# Altium schematic symbol library passive.SchLib: 61 symbols
Pins are listed as number, name and electrical type; pins without a type are passive.

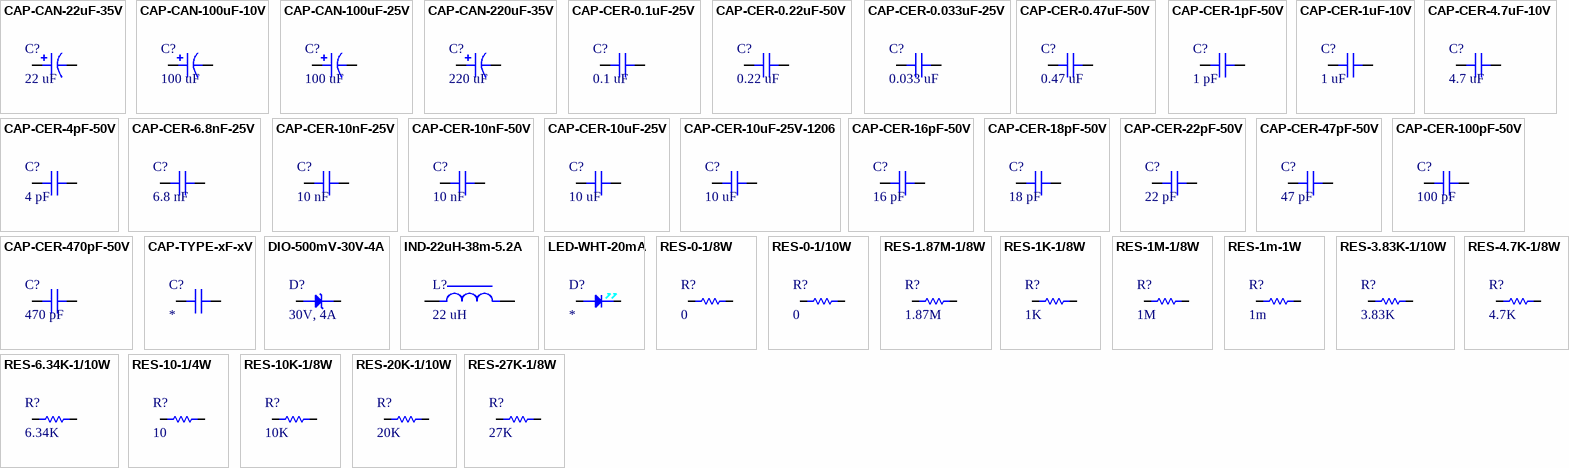
[diagram p0: symbols CAP-CAN-22uF-35V to RES-27K-1/8W]

## CAP-CAN-22uF-35V
designator C?, comment 22 uF
±20%, 5.3mm x 5.3mm; Supplier 1: Digi-Key; Supplier Part Number 1: PCE3838DKR-ND
footprint CAP-CAN-5.3x5.3 (Aluminum Electrolytic Capacitor, Body 4.30x4.30x5.50mm, IPC Low Density)
pins: 1, 2

## CAP-CAN-100uF-10V
designator C?, comment 100 uF
±20%, 8.3mm x 8.3mm; Supplier 1: Digi-Key; Supplier Part Number 1: PCE3989DKR-ND
footprint CAP-CAN-8.3x8.3 (Aluminum Electrolytic Capacitor, Body 8.30x8.30x10.50mm, IPC Low Density)
pins: 1, 2

## CAP-CAN-100uF-25V
designator C?, comment 100 uF
±20%, 8.3mm x 8.3mm; Supplier 1: Digi-Key; Supplier Part Number 1: PCE4003DKR-ND
footprint CAP-CAN-8.3x8.3 (Aluminum Electrolytic Capacitor, Body 8.30x8.30x10.50mm, IPC Low Density)
pins: 1, 2

## CAP-CAN-220uF-35V
designator C?, comment 220 uF
±20%, 8.3mm x 8.3mm; Supplier 1: Digi-Key; Supplier Part Number 1: PCE3955DKR-ND
footprint CAP-CAN-8.3x8.3 (Aluminum Electrolytic Capacitor, Body 8.30x8.30x10.50mm, IPC Low Density)
pins: 1, 2

## CAP-CER-0.1uF-25V
designator C?, comment 0.1 uF
±10%, 0805; ComponentLink1Description: Capacitor Book (Amazon); ComponentLink1URL: https://www.amazon.com/gp/product/B0728HBDRW/
footprint CAP-CER-0805-SHORT (Chip Capacitor, 2-Leads, Body 2.00x1.25mm, IPC Medium Density)
pins: 1, 2

## CAP-CER-0.22uF-50V
designator C?, comment 0.22 uF
±10%, 0805; ComponentLink1Description: Capacitor Book (Amazon); ComponentLink1URL: https://www.amazon.com/gp/product/B0728HBDRW/
footprint CAP-CER-0805-SHORT (Chip Capacitor, 2-Leads, Body 2.00x1.25mm, IPC Medium Density)
pins: 1, 2

## CAP-CER-0.033uF-25V
designator C?, comment 0.033 uF
±10%, 0603; Supplier 1: Digi-Key; Supplier Part Number 1: 1276-6675-6-ND
footprint CAP-CER-0603 (Chip Capacitor, 2-Leads, Body 1.60x0.80mm, IPC Medium Density)
pins: 1, 2

## CAP-CER-0.47uF-50V
designator C?, comment 0.47 uF
±10%, 0805; ComponentLink1Description: Capacitor Book (Amazon); ComponentLink1URL: https://www.amazon.com/gp/product/B0728HBDRW/
footprint CAP-CER-0805-TALL (Chip Capacitor, 2-Leads, Body 2.00x1.25mm, IPC Medium Density)
pins: 1, 2

## CAP-CER-1pF-50V
designator C?, comment 1 pF
±0.25pF, 0805; ComponentLink1Description: Capacitor Book (Amazon); ComponentLink1URL: https://www.amazon.com/gp/product/B0728HBDRW/
footprint CAP-CER-0805-SHORT (Chip Capacitor, 2-Leads, Body 2.00x1.25mm, IPC Medium Density)
pins: 1, 2

## CAP-CER-1uF-10V
designator C?, comment 1 uF
±10%, 0805; ComponentLink1Description: Capacitor Book (Amazon); ComponentLink1URL: https://www.amazon.com/gp/product/B0728HBDRW/
footprint CAP-CER-0805-TALL (Chip Capacitor, 2-Leads, Body 2.00x1.25mm, IPC Medium Density)
pins: 1, 2

## CAP-CER-4.7uF-10V
designator C?, comment 4.7 uF
±10%, 0805; ComponentLink1Description: Capacitor Book (Amazon); ComponentLink1URL: https://www.amazon.com/gp/product/B0728HBDRW/
footprint CAP-CER-0805-TALL (Chip Capacitor, 2-Leads, Body 2.00x1.25mm, IPC Medium Density)
pins: 1, 2

## CAP-CER-4pF-50V
designator C?, comment 4 pF
±0.25pF, 0805; ComponentLink1Description: Capacitor Book (Amazon); ComponentLink1URL: https://www.amazon.com/gp/product/B0728HBDRW/
footprint CAP-CER-0805-SHORT (Chip Capacitor, 2-Leads, Body 2.00x1.25mm, IPC Medium Density)
pins: 1, 2

## CAP-CER-6.8nF-25V
designator C?, comment 6.8 nF
±10%, 0603; Supplier 1: Digi-Key; Supplier Part Number 1: 732-7982-6-ND
footprint CAP-CER-0603 (Chip Capacitor, 2-Leads, Body 1.60x0.80mm, IPC Medium Density)
pins: 1, 2

## CAP-CER-10nF-25V
designator C?, comment 10 nF
±20%, 0603; Supplier 1: Digi-Key; Supplier Part Number 1: 399-8989-6-ND
footprint CAP-CER-0603 (Chip Capacitor, 2-Leads, Body 1.60x0.80mm, IPC Medium Density)
pins: 1, 2

## CAP-CER-10nF-50V
designator C?, comment 10 nF
±10%, 0805; ComponentLink1Description: Capacitor Book (Amazon); ComponentLink1URL: https://www.amazon.com/gp/product/B0728HBDRW/
footprint CAP-CER-0805-SHORT (Chip Capacitor, 2-Leads, Body 2.00x1.25mm, IPC Medium Density)
pins: 1, 2

## CAP-CER-10uF-25V
designator C?, comment 10 uF
±10%, 0805; Supplier 1: Digi-Key; ComponentLink1Description: Datasheet; ComponentLink1URL: https://search.murata.co.jp/Ceramy/image/img/A01X/G101/ENG/GRM21BR61E106KA73-01.pdf; Supplier Part Number 1: 490-5523-6-ND
footprint CAP-CER-0805-TALL (Chip Capacitor, 2-Leads, Body 2.00x1.25mm, IPC Medium Density)
pins: 1, 2

## CAP-CER-10uF-25V-1206
designator C?, comment 10 uF
±20%, 1206; ComponentLink1Description: Datasheet; ComponentLink1URL: https://search.murata.co.jp/Ceramy/image/img/A01X/G101/ENG/GRM21BR61E106KA73-01.pdf; Supplier 1: Digi-Key; Supplier Part Number 1: 445-14678-6-ND
footprint CAP-CER-1206 (Chip Capacitor, 2-Leads, Body 3.20x1.60mm, IPC Medium Density)
pins: 1, 2

## CAP-CER-16pF-50V
designator C?, comment 16 pF
±5%, 0805; ComponentLink1Description: Capacitor Book (Amazon); ComponentLink1URL: https://www.amazon.com/gp/product/B0728HBDRW/
footprint CAP-CER-0805-SHORT (Chip Capacitor, 2-Leads, Body 2.00x1.25mm, IPC Medium Density)
pins: 1, 2

## CAP-CER-18pF-50V
designator C?, comment 18 pF
±5%, 0805; ComponentLink1Description: Capacitor Book (Amazon); ComponentLink1URL: https://www.amazon.com/gp/product/B0728HBDRW/
footprint CAP-CER-0805-SHORT (Chip Capacitor, 2-Leads, Body 2.00x1.25mm, IPC Medium Density)
pins: 1, 2

## CAP-CER-22pF-50V
designator C?, comment 22 pF
±5%, 0805; ComponentLink1Description: Capacitor Book (Amazon); ComponentLink1URL: https://www.amazon.com/gp/product/B0728HBDRW/
footprint CAP-CER-0805-SHORT (Chip Capacitor, 2-Leads, Body 2.00x1.25mm, IPC Medium Density)
pins: 1, 2

## CAP-CER-47pF-50V
designator C?, comment 47 pF
±5%, 0805; ComponentLink1Description: Capacitor Book (Amazon); ComponentLink1URL: https://www.amazon.com/gp/product/B0728HBDRW/
footprint CAP-CER-0805-SHORT (Chip Capacitor, 2-Leads, Body 2.00x1.25mm, IPC Medium Density)
pins: 1, 2

## CAP-CER-100pF-50V
designator C?, comment 100 pF
±5%, 0805; ComponentLink1Description: Capacitor Book (Amazon); ComponentLink1URL: https://www.amazon.com/gp/product/B0728HBDRW/
footprint CAP-CER-0805-SHORT (Chip Capacitor, 2-Leads, Body 2.00x1.25mm, IPC Medium Density)
pins: 1, 2

## CAP-CER-470pF-50V
designator C?, comment 470 pF
20%, 0603; Supplier 1: Digi-Key; Supplier Part Number 1: 311-3377-6-ND
footprint CAP-CER-0603 (Chip Capacitor, 2-Leads, Body 1.60x0.80mm, IPC Medium Density)
pins: 1, 2

## CAP-TYPE-xF-xV
designator C?
±X%, 0805; ComponentLink1Description: Capacitor Book (Amazon); ComponentLink1URL: https://www.amazon.com/gp/product/B0728HBDRW/
footprint CAP-CER-0805-SHORT (Chip Capacitor, 2-Leads, Body 2.00x1.25mm, IPC Medium Density)
pins: 1, 2

## DIO-500mV-30V-4A
designator D?, comment 30V, 4A
Schottky, SMC (DO-214AB); ComponentLink1Description: Resistor Book (Amazon); ComponentLink1URL: https://www.amazon.com/gp/product/B071J21FYF/; Supplier 1: Digi-Key; Supplier Part Number 1: MBRS330T3GOSDKR-ND
footprint DO-214AB-SMC (Molded Diode, 2-Leads, Body 6.86x5.85mm, IPC Medium Density)
pins: 1 CT, 2 AN

## IND-22uH-38m-5.2A
designator L?, comment 22 uH
±20%, 8 MHz res; Supplier 1: Digi-Key; Supplier Part Number 1: SRR1210-220MDKR-ND; ComponentLink1Description: Datasheet; ComponentLink1URL: https://www.bourns.com/docs/Product-Datasheets/SRR1210.pdf
footprint IND-12mm (Precision Wire Wound Inductor, 2-Leads, Body 12.00x12.00mm, IPC Medium Density)
pins: 1, 2

## LED-WHT-20mA
designator D?
2.2V, 0805; ComponentLink1Description: Resistor Book (Amazon); ComponentLink1URL: https://www.amazon.com/gp/product/B071J21FYF/; Supplier 1: Digi-Key; Supplier Part Number 1: 475-1410-1-ND
footprint LED-0805 (Chip Diode, 2-Leads, Body 2.00x1.25mm, IPC Medium Density)
pins: 1 CT, 2 AN

## RES-0-1/8W
designator R?, comment 0
0805; ComponentLink1Description: Resistor Book (Amazon); ComponentLink1URL: https://www.amazon.com/gp/product/B071J21FYF/
footprint RES-0805 (Chip Resistor, 2-Leads, Body 2.00x1.25mm, IPC Medium Density)
pins: 1, 2

## RES-0-1/10W
designator R?, comment 0
0603; Supplier 1: Digi-Key; Supplier Part Number 1: P0.0GDKR-ND
footprint RES-0603 (Chip Resistor, 2-Leads, Body 1.60x0.85mm, IPC Medium Density)
pins: 1, 2

## RES-1.87M-1/8W
designator R?, comment 1.87M
1%, 0805; Supplier 1: Digi-Key; Supplier Part Number 1: P1.87BTDKR-ND
footprint RES-0805 (Chip Resistor, 2-Leads, Body 2.00x1.25mm, IPC Medium Density)
pins: 1, 2

## RES-1K-1/8W
designator R?, comment 1K
0805; ComponentLink1Description: Resistor Book (Amazon); ComponentLink1URL: https://www.amazon.com/gp/product/B071J21FYF/
footprint RES-0805 (Chip Resistor, 2-Leads, Body 2.00x1.25mm, IPC Medium Density)
pins: 1, 2

## RES-1M-1/8W
designator R?, comment 1M
0805; ComponentLink1Description: Resistor Book (Amazon); ComponentLink1URL: https://www.amazon.com/gp/product/B071J21FYF/
footprint RES-0805 (Chip Resistor, 2-Leads, Body 2.00x1.25mm, IPC Medium Density)
pins: 1, 2

## RES-1m-1W
designator R?, comment 1m
0805; Supplier 1: Digi-Key; Supplier Part Number 1: 696-1369-6-ND
footprint RES-1206 (Chip Resistor, 2-Leads, Body 3.20x1.60mm, IPC Medium Density)
pins: 1, 2

## RES-3.83K-1/10W
designator R?, comment 3.83K
1%, 0603; Supplier 1: Digi-Key; Supplier Part Number 1: P3.83KHDKR-ND
footprint RES-0603 (Chip Resistor, 2-Leads, Body 1.60x0.85mm, IPC Medium Density)
pins: 1, 2

## RES-4.7K-1/8W
designator R?, comment 4.7K
0805; ComponentLink1Description: Resistor Book (Amazon); ComponentLink1URL: https://www.amazon.com/gp/product/B071J21FYF/
footprint RES-0805 (Chip Resistor, 2-Leads, Body 2.00x1.25mm, IPC Medium Density)
pins: 1, 2

## RES-6.34K-1/10W
designator R?, comment 6.34K
1%, 0603; Supplier 1: Digi-Key; Supplier Part Number 1: 311-6.34KHRDKR-ND
footprint RES-0603 (Chip Resistor, 2-Leads, Body 1.60x0.85mm, IPC Medium Density)
pins: 1, 2

## RES-10-1/4W
designator R?, comment 10
5%, 0603; Supplier 1: Digi-Key; Supplier Part Number 1: RHM10DDKR-ND
footprint RES-0603 (Chip Resistor, 2-Leads, Body 1.60x0.85mm, IPC Medium Density)
pins: 1, 2

## RES-10K-1/8W
designator R?, comment 10K
0805; ComponentLink1Description: Resistor Book (Amazon); ComponentLink1URL: https://www.amazon.com/gp/product/B071J21FYF/
footprint RES-0805 (Chip Resistor, 2-Leads, Body 2.00x1.25mm, IPC Medium Density)
pins: 1, 2

## RES-20K-1/10W
designator R?, comment 20K
1%, 0603; Supplier 1: Digi-Key; Supplier Part Number 1: P20.0KHDKR-ND
footprint RES-0603 (Chip Resistor, 2-Leads, Body 1.60x0.85mm, IPC Medium Density)
pins: 1, 2

## RES-27K-1/8W
designator R?, comment 27K
0805; ComponentLink1Description: Resistor Book (Amazon); ComponentLink1URL: https://www.amazon.com/gp/product/B071J21FYF/
footprint RES-0805 (Chip Resistor, 2-Leads, Body 2.00x1.25mm, IPC Medium Density)
pins: 1, 2

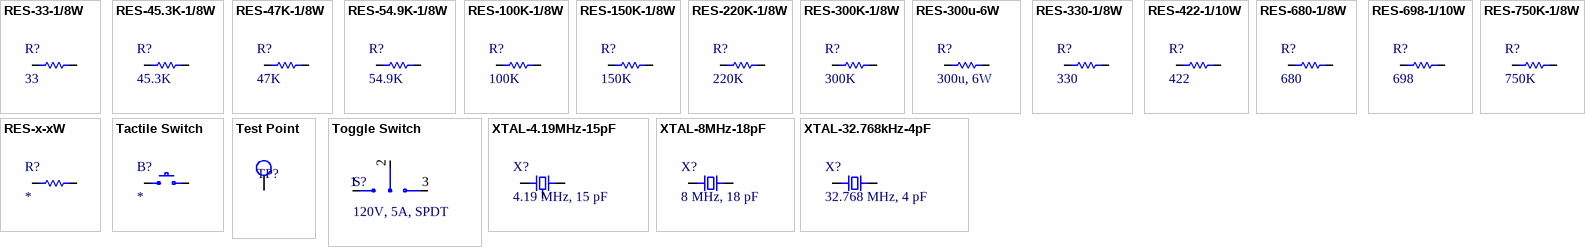
[diagram p1: symbols RES-33-1/8W to XTAL-32.768kHz-4pF]

## RES-33-1/8W
designator R?, comment 33
0805; ComponentLink1Description: Resistor Book (Amazon); ComponentLink1URL: https://www.amazon.com/gp/product/B071J21FYF/
footprint RES-0805 (Chip Resistor, 2-Leads, Body 2.00x1.25mm, IPC Medium Density)
pins: 1, 2

## RES-45.3K-1/8W
designator R?, comment 45.3K
1%, 0805; Supplier 1: Digi-Key; Supplier Part Number 1: P45.3KCDKR-ND
footprint RES-0805 (Chip Resistor, 2-Leads, Body 2.00x1.25mm, IPC Medium Density)
pins: 1, 2

## RES-47K-1/8W
designator R?, comment 47K
0805; ComponentLink1Description: Resistor Book (Amazon); ComponentLink1URL: https://www.amazon.com/gp/product/B071J21FYF/
footprint RES-0805 (Chip Resistor, 2-Leads, Body 2.00x1.25mm, IPC Medium Density)
pins: 1, 2

## RES-54.9K-1/8W
designator R?, comment 54.9K
1%, 0805; Supplier 1: Digi-Key; Supplier Part Number 1: 541-54.9KCDKR-ND
footprint RES-0805 (Chip Resistor, 2-Leads, Body 2.00x1.25mm, IPC Medium Density)
pins: 1, 2

## RES-100K-1/8W
designator R?, comment 100K
0805; ComponentLink1Description: Resistor Book (Amazon); ComponentLink1URL: https://www.amazon.com/gp/product/B071J21FYF/
footprint RES-0805 (Chip Resistor, 2-Leads, Body 2.00x1.25mm, IPC Medium Density)
pins: 1, 2

## RES-150K-1/8W
designator R?, comment 150K
0805; ComponentLink1Description: Resistor Book (Amazon); ComponentLink1URL: https://www.amazon.com/gp/product/B071J21FYF/
footprint RES-0805 (Chip Resistor, 2-Leads, Body 2.00x1.25mm, IPC Medium Density)
pins: 1, 2

## RES-220K-1/8W
designator R?, comment 220K
0805; ComponentLink1Description: Resistor Book (Amazon); ComponentLink1URL: https://www.amazon.com/gp/product/B071J21FYF/
footprint RES-0805 (Chip Resistor, 2-Leads, Body 2.00x1.25mm, IPC Medium Density)
pins: 1, 2

## RES-300K-1/8W
designator R?, comment 300K
0805; ComponentLink1Description: Resistor Book (Amazon); ComponentLink1URL: https://www.amazon.com/gp/product/B071J21FYF/
footprint RES-0805 (Chip Resistor, 2-Leads, Body 2.00x1.25mm, IPC Medium Density)
pins: 1, 2

## RES-300u-6W
designator R?, comment 300u, 6W
2512, 1%; Supplier 1: Digi-Key; ComponentLink1Description: Datasheet; ComponentLink1URL: http://www.vishay.com/docs/30193/wslf.pdf; Supplier Part Number 1: 541-3123-6-ND
footprint RES-SHNT-2512
pins: 1, 2

## RES-330-1/8W
designator R?, comment 330
0805; ComponentLink1Description: Resistor Book (Amazon); ComponentLink1URL: https://www.amazon.com/gp/product/B071J21FYF/
footprint RES-0805 (Chip Resistor, 2-Leads, Body 2.00x1.25mm, IPC Medium Density)
pins: 1, 2

## RES-422-1/10W
designator R?, comment 422
1%, 0603; Supplier 1: Digi-Key; Supplier Part Number 1: 311-422HRCT-ND
footprint RES-0603 (Chip Resistor, 2-Leads, Body 1.60x0.85mm, IPC Medium Density)
pins: 1, 2

## RES-680-1/8W
designator R?, comment 680
0805; ComponentLink1Description: Resistor Book (Amazon); ComponentLink1URL: https://www.amazon.com/gp/product/B071J21FYF/
footprint RES-0805 (Chip Resistor, 2-Leads, Body 2.00x1.25mm, IPC Medium Density)
pins: 1, 2

## RES-698-1/10W
designator R?, comment 698
1%, 0603; Supplier 1: Digi-Key; Supplier Part Number 1: RMCF0603FT698RDKR-ND
footprint RES-0603 (Chip Resistor, 2-Leads, Body 1.60x0.85mm, IPC Medium Density)
pins: 1, 2

## RES-750K-1/8W
designator R?, comment 750K
0805; ComponentLink1Description: Resistor Book (Amazon); ComponentLink1URL: https://www.amazon.com/gp/product/B071J21FYF/
footprint RES-0805 (Chip Resistor, 2-Leads, Body 2.00x1.25mm, IPC Medium Density)
pins: 1, 2

## RES-x-xW
designator R?
PKG; ComponentLink1Description: Resistor Book (Amazon); ComponentLink1URL: https://www.amazon.com/gp/product/B071J21FYF/
footprint RES-0805 (Chip Resistor, 2-Leads, Body 2.00x1.25mm, IPC Medium Density)
pins: 1, 2

## Tactile Switch
designator B?
NO, MOM, 6mm; Supplier 1: Digi-Key; Supplier Part Number 1: CKN9112DKR-ND
footprint 6mm Tactile Switch
pins: 1, 2

## Test Point
designator TP?
0603; Supplier 1: Digi-Key; Supplier Part Number 1: A106145DKR-ND
footprint 0603 Test Point
pins: 1

## Toggle Switch
designator S?, comment 120V, 5A, SPDT
SPDT, On-On, Right-Angle; Supplier 1: Digi-Key; ComponentLink1Description: Drawing; ComponentLink1URL: http://spec_sheets.e-switch.com/specs/T111069.pdf; Supplier Part Number 1: EG2362-ND
pins: 1 0, 2 C, 3 1

## XTAL-4.19MHz-15pF
designator X?, comment 4.19 MHz, 15 pF
Ceramic, 3-SMD, Built-In Capacitance; Supplier 1: Digi-Key; ComponentLink1Description: Part Numbering; ComponentLink1URL: https://www.murata.com/en-us/products/productdata/8796821913630/L0430E.pdf; ComponentLink2Description: Application Note; ComponentLink2URL: https://www.murata.com/~/media/webrenewal/support/library/catalog/products/timingdevice/ceralock/p17e.ashx; ComponentLink3Description: Datasheet; ComponentLink3URL: https://www.murata.com/~/media/webrenewal/support/library/catalog/products/timingdevice/ceralock/p16e.ashx; Supplier Part Number 1: 490-1201-6-ND
footprint CSTCR (Ceramic Oscillator Built-In Capacitance)
pins: 1 IN, 2 GND, 3 OUT

## XTAL-8MHz-18pF
designator X?, comment 8 MHz, 18 pF
Crystal, HC-49; Supplier 1: Digi-Key; ComponentLink1Description: Datasheet; ComponentLink1URL: https://abracon.com/Resonators/abls.pdf; Supplier Part Number 1: 535-9089-6-ND
footprint HC-49 (Crystal Oscillator)
pins: 1, 2

## XTAL-32.768kHz-4pF
designator X?, comment 32.768 MHz, 4 pF
Crystal, 0805; Supplier 1: Digi-Key; ComponentLink1Description: Datasheet; ComponentLink1URL: https://abracon.com/Resonators/ABS06-107-32.768kHz-T.pdf; Supplier Part Number 1: 535-12373-6-ND
footprint XTAL-0805 (Crystal Oscillator)
pins: 1, 2